# Altium integrated library National Semiconductor Amplifier.IntLib: 1665 symbols (part 19 of 44)
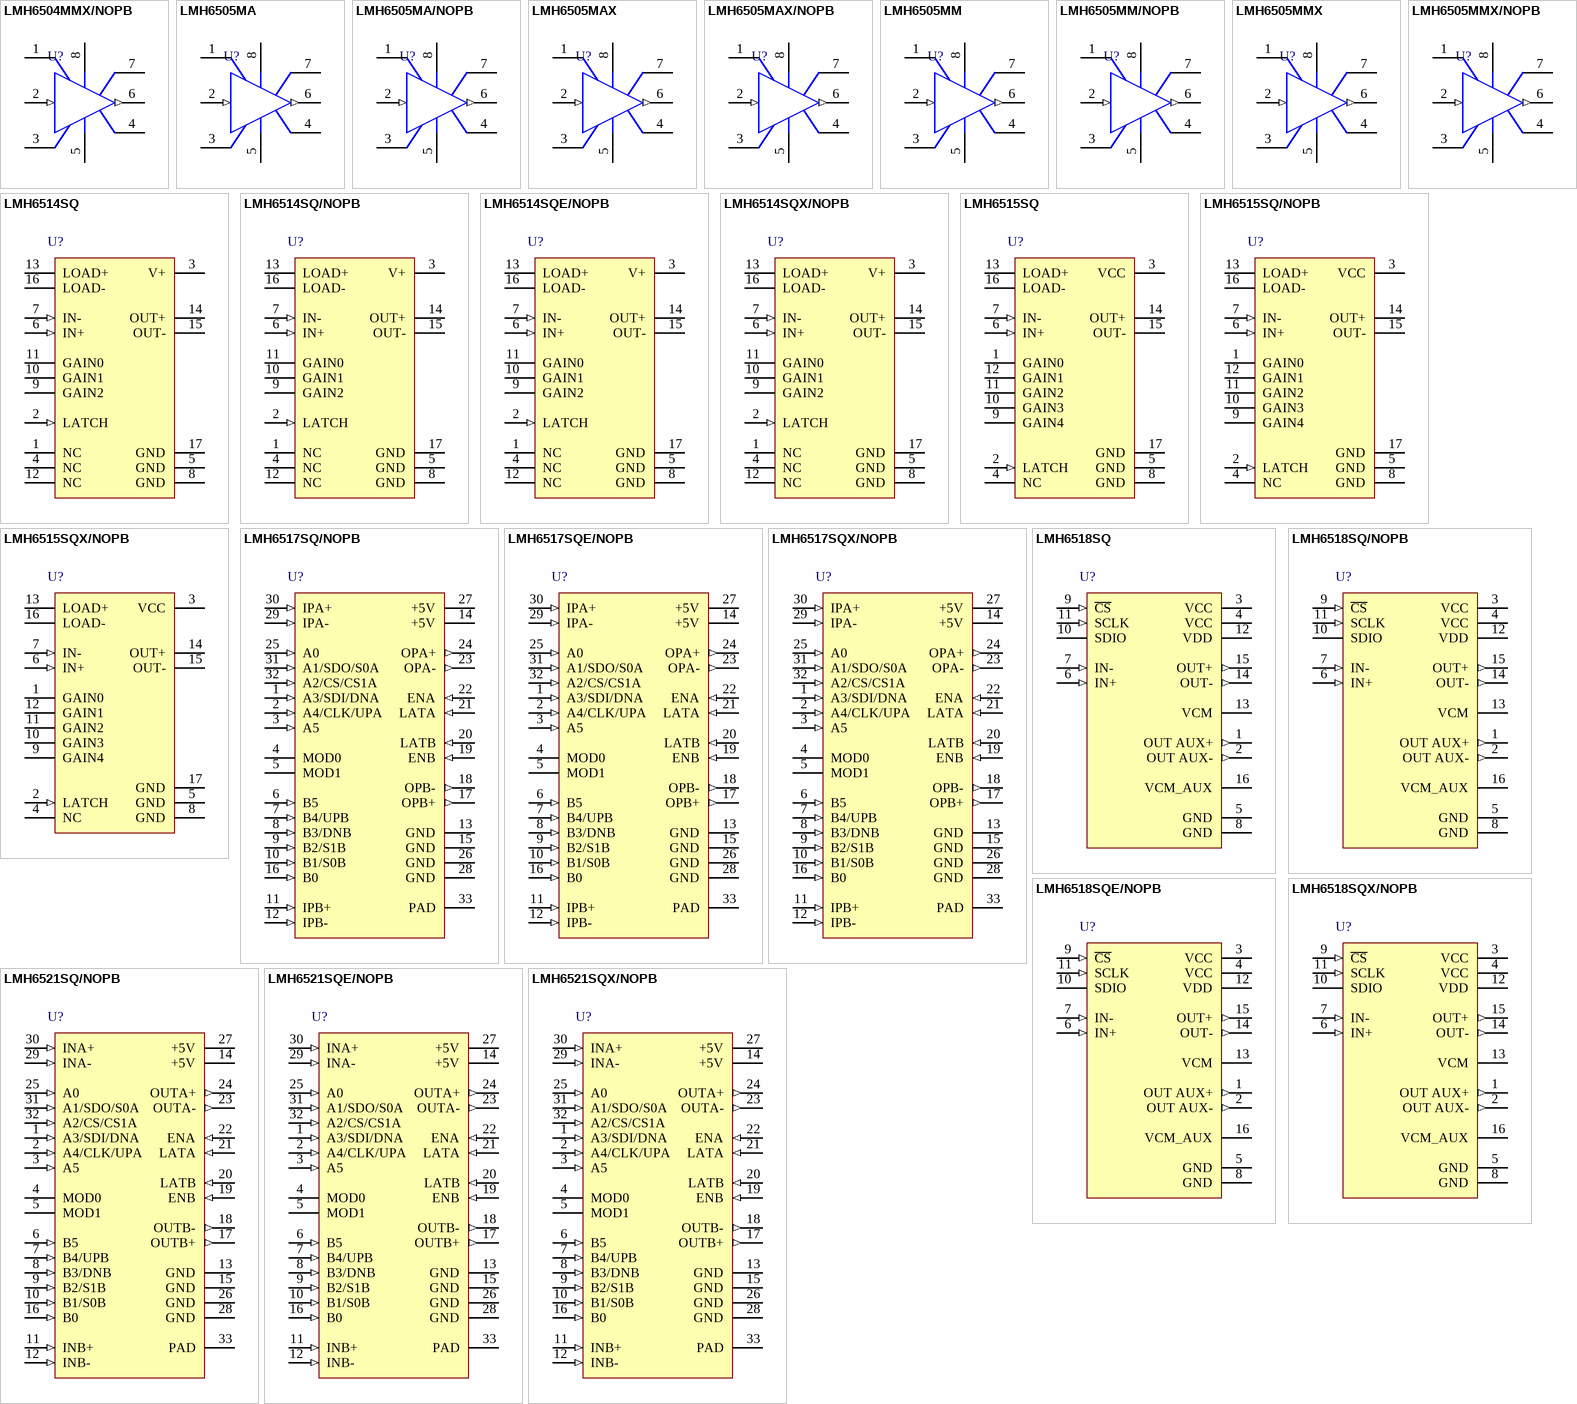
[diagram p102: symbols LMH6504MMX/NOPB to LMH6521SQX/NOPB]

## LMH6505MMX
designator U?
Wideband, Low Power, Linear-in-dB, Variable Gain Amplifier, 8-pin Mini SOIC; PartNumber: LMH6505MMX; Manufacturer: National Semiconductor; PackageTopMarking: ZXTT*AZ2A; PowerWise: Y; CompType: Amplifiers; DatasheetVersion: Dec-2007; PackageVersion: revF, Apr-2008; PackageReference: MUA08A; PackageDescription: MINI SOIC, .118 x .118 x .034in, 8 Lead, .0256in Pitch; RoHS: N; PinCount: 8; High-Reliability: Y; Code_JEDEC: MO-187-AA; ComponentLink1Description: Manufacturer URL; ComponentLink1URL: http://www.national.com/; ComponentLink2Description: LMH6505 Datasheet; ComponentLink2URL: http://www.national.com/ds/LM/LMH6505.pdf; ComponentLink3Description: LMH6505 Web Page; ComponentLink3URL: http://www.national.com/pf/LM/LMH6505.html; ComponentLink4Description: MUA08A Package Page; ComponentLink4URL: http://www.national.com/packaging/folders/mua08a.html
footprint MUA08A_N (TSOP, 8-Leads, Body 3x3mm, Pitch 0.65mm, IPC Medium Density)
footprint MUA08A_L (TSOP, 8-Leads, Body 3x3mm, Pitch 0.65mm, IPC High Density)
footprint MUA08A_M (TSOP, 8-Leads, Body 3x3mm, Pitch 0.65mm, IPC Low Density)
pins: 1 VG, 2 VIN (in), 3 RG, 4 GND (power), 5 V- (power), 6 VOUT (out), 7 I-, 8 V+ (power)

## LMH6505MMX/NOPB
designator U?
Wideband, Low Power, Linear-in-dB, Variable Gain Amplifier, 8-pin Mini SOIC, Pb-Free; PartNumber: LMH6505MMX/NOPB; Manufacturer: National Semiconductor; PackageTopMarking: ZXTT*AZ2A; PowerWise: Y; CompType: Amplifiers; DatasheetVersion: Dec-2007; PackageVersion: revF, Apr-2008; PackageReference: MUA08A; PackageDescription: MINI SOIC, .118 x .118 x .034in, 8 Lead, .0256in Pitch; RoHS: Y; PinCount: 8; High-Reliability: Y; Code_JEDEC: MO-187-AA; ComponentLink1Description: Manufacturer URL; ComponentLink1URL: http://www.national.com/; ComponentLink2Description: LMH6505 Datasheet; ComponentLink2URL: http://www.national.com/ds/LM/LMH6505.pdf; ComponentLink3Description: LMH6505 Web Page; ComponentLink3URL: http://www.national.com/pf/LM/LMH6505.html; ComponentLink4Description: MUA08A Package Page; ComponentLink4URL: http://www.national.com/packaging/folders/mua08a.html
footprint MUA08A_N (TSOP, 8-Leads, Body 3x3mm, Pitch 0.65mm, IPC Medium Density)
footprint MUA08A_L (TSOP, 8-Leads, Body 3x3mm, Pitch 0.65mm, IPC High Density)
footprint MUA08A_M (TSOP, 8-Leads, Body 3x3mm, Pitch 0.65mm, IPC Low Density)
pins: 1 VG, 2 VIN (in), 3 RG, 4 GND (power), 5 V- (power), 6 VOUT (out), 7 I-, 8 V+ (power)

## LMH6514SQ
designator U?
600 MHz, Digital Controlled, Variable Gain Amplifier, 16-pin LLP; PartNumber: LMH6514SQ; Manufacturer: National Semiconductor; PackageTopMarking: NS*UZXYTT*L6514SQ; PowerWise: Y; CompType: Amplifiers; DatasheetVersion: Jan-2008; PackageVersion: revA, Oct-2003; PackageReference: SQA16A; PackageDescription: LLP, Plastic, Quad, 4 x 4 x 0.8mm Body, 16 Lead, 0.5mm Pitch, No Pullback; RoHS: Y; PinCount: 16; High-Reliability: Y; ComponentLink1Description: Manufacturer URL; ComponentLink1URL: http://www.national.com/; ComponentLink2Description: LMH6514 Datasheet; ComponentLink2URL: http://www.national.com/ds/LM/LMH6514.pdf; ComponentLink3Description: LMH6514 Web Page; ComponentLink3URL: http://www.national.com/pf/LM/LMH6514.html; ComponentLink4Description: SQA16A Package Page; ComponentLink4URL: http://www.national.com/packaging/folders/sqa16a.html
footprint SQA16A (QFN, 16-Leads, Body 4x4mm, Pitch 0.5mm, Thermal Pad 2.7x2.7mm, NSC Recommended)
pins: 1 NC, 2 LATCH (in), 3 V+ (power), 4 NC, 5 GND (power), 6 IN+ (in), 7 IN- (in), 8 GND (power), 9 GAIN2, 10 GAIN1, 11 GAIN0, 12 NC, 13 LOAD+, 14 OUT+ (oc), 15 OUT- (oc), 16 LOAD-, 17 GND (power)

## LMH6514SQ/NOPB
designator U?
600 MHz, Digital Controlled, Variable Gain Amplifier, 16-pin LLP, Pb-Free; PartNumber: LMH6514SQ/NOPB; Manufacturer: National Semiconductor; PackageTopMarking: NS*UZXYTT*L6514SQ; PowerWise: Y; CompType: Amplifiers; DatasheetVersion: Jan-2008; PackageVersion: revA, Oct-2003; PackageReference: SQA16A; PackageDescription: LLP, Plastic, Quad, 4 x 4 x 0.8mm Body, 16 Lead, 0.5mm Pitch, No Pullback; RoHS: Y; PinCount: 16; High-Reliability: Y; ComponentLink1Description: Manufacturer URL; ComponentLink1URL: http://www.national.com/; ComponentLink2Description: LMH6514 Datasheet; ComponentLink2URL: http://www.national.com/ds/LM/LMH6514.pdf; ComponentLink3Description: LMH6514 Web Page; ComponentLink3URL: http://www.national.com/pf/LM/LMH6514.html; ComponentLink4Description: SQA16A Package Page; ComponentLink4URL: http://www.national.com/packaging/folders/sqa16a.html
footprint SQA16A (QFN, 16-Leads, Body 4x4mm, Pitch 0.5mm, Thermal Pad 2.7x2.7mm, NSC Recommended)
pins: 1 NC, 2 LATCH (in), 3 V+ (power), 4 NC, 5 GND (power), 6 IN+ (in), 7 IN- (in), 8 GND (power), 9 GAIN2, 10 GAIN1, 11 GAIN0, 12 NC, 13 LOAD+, 14 OUT+ (oc), 15 OUT- (oc), 16 LOAD-, 17 GND (power)

## LMH6514SQE/NOPB
designator U?
600 MHz, Digital Controlled, Variable Gain Amplifier, 16-pin LLP, Pb-Free; PartNumber: LMH6514SQE/NOPB; Manufacturer: National Semiconductor; PackageTopMarking: NS*UZXYTT*L6514SQ; PowerWise: Y; CompType: Amplifiers; DatasheetVersion: Jan-2008; PackageVersion: revA, Oct-2003; PackageReference: SQA16A; PackageDescription: LLP, Plastic, Quad, 4 x 4 x 0.8mm Body, 16 Lead, 0.5mm Pitch, No Pullback; RoHS: Y; PinCount: 16; High-Reliability: Y; ComponentLink1Description: Manufacturer URL; ComponentLink1URL: http://www.national.com/; ComponentLink2Description: LMH6514 Datasheet; ComponentLink2URL: http://www.national.com/ds/LM/LMH6514.pdf; ComponentLink3Description: LMH6514 Web Page; ComponentLink3URL: http://www.national.com/pf/LM/LMH6514.html; ComponentLink4Description: SQA16A Package Page; ComponentLink4URL: http://www.national.com/packaging/folders/sqa16a.html
footprint SQA16A (QFN, 16-Leads, Body 4x4mm, Pitch 0.5mm, Thermal Pad 2.7x2.7mm, NSC Recommended)
pins: 1 NC, 2 LATCH (in), 3 V+ (power), 4 NC, 5 GND (power), 6 IN+ (in), 7 IN- (in), 8 GND (power), 9 GAIN2, 10 GAIN1, 11 GAIN0, 12 NC, 13 LOAD+, 14 OUT+ (oc), 15 OUT- (oc), 16 LOAD-, 17 GND (power)

## LMH6514SQX/NOPB
designator U?
600 MHz, Digital Controlled, Variable Gain Amplifier, 16-pin LLP, Pb-Free; PartNumber: LMH6514SQX/NOPB; Manufacturer: National Semiconductor; PackageTopMarking: NS*UZXYTT*L6514SQ; PowerWise: Y; CompType: Amplifiers; DatasheetVersion: Jan-2008; PackageVersion: revA, Oct-2003; PackageReference: SQA16A; PackageDescription: LLP, Plastic, Quad, 4 x 4 x 0.8mm Body, 16 Lead, 0.5mm Pitch, No Pullback; RoHS: Y; PinCount: 16; High-Reliability: Y; ComponentLink1Description: Manufacturer URL; ComponentLink1URL: http://www.national.com/; ComponentLink2Description: LMH6514 Datasheet; ComponentLink2URL: http://www.national.com/ds/LM/LMH6514.pdf; ComponentLink3Description: LMH6514 Web Page; ComponentLink3URL: http://www.national.com/pf/LM/LMH6514.html; ComponentLink4Description: SQA16A Package Page; ComponentLink4URL: http://www.national.com/packaging/folders/sqa16a.html
footprint SQA16A (QFN, 16-Leads, Body 4x4mm, Pitch 0.5mm, Thermal Pad 2.7x2.7mm, NSC Recommended)
pins: 1 NC, 2 LATCH (in), 3 V+ (power), 4 NC, 5 GND (power), 6 IN+ (in), 7 IN- (in), 8 GND (power), 9 GAIN2, 10 GAIN1, 11 GAIN0, 12 NC, 13 LOAD+, 14 OUT+ (oc), 15 OUT- (oc), 16 LOAD-, 17 GND (power)

## LMH6515SQ
designator U?
600 MHz, Digital Controlled, Variable Gain Amplifier, 16-pin LLP; PartNumber: LMH6515SQ; Manufacturer: National Semiconductor; PackageTopMarking: NS*UZXYTT*L6515SQ; PowerWise: Y; CompType: Amplifiers; DatasheetVersion: Oct-2007; PackageVersion: revA, Oct-2003; PackageReference: SQA16A; PackageDescription: LLP, Plastic, Quad, 4 x 4 x 0.8mm Body, 16 Lead, 0.5mm Pitch, No Pullback; RoHS: Y; PinCount: 16; High-Reliability: Y; ComponentLink1Description: Manufacturer URL; ComponentLink1URL: http://www.national.com/; ComponentLink2Description: LMH6515 Datasheet; ComponentLink2URL: http://www.national.com/ds/LM/LMH6515.pdf; ComponentLink3Description: LMH6515 Web Page; ComponentLink3URL: http://www.national.com/pf/LM/LMH6515.html; ComponentLink4Description: SQA16A Package Page; ComponentLink4URL: http://www.national.com/packaging/folders/sqa16a.html
footprint SQA16A (QFN, 16-Leads, Body 4x4mm, Pitch 0.5mm, Thermal Pad 2.7x2.7mm, NSC Recommended)
pins: 1 GAIN0, 2 LATCH (in), 3 VCC (power), 4 NC, 5 GND (power), 6 IN+ (in), 7 IN- (in), 8 GND (power), 9 GAIN4, 10 GAIN3, 11 GAIN2, 12 GAIN1, 13 LOAD+, 14 OUT+ (oc), 15 OUT- (oc), 16 LOAD-, 17 GND (power)

## LMH6515SQ/NOPB
designator U?
600 MHz, Digital Controlled, Variable Gain Amplifier, 16-pin LLP, Pb-Free; PartNumber: LMH6515SQ/NOPB; Manufacturer: National Semiconductor; PackageTopMarking: NS*UZXYTT*L6515SQ; PowerWise: Y; CompType: Amplifiers; DatasheetVersion: Oct-2007; PackageVersion: revA, Oct-2003; PackageReference: SQA16A; PackageDescription: LLP, Plastic, Quad, 4 x 4 x 0.8mm Body, 16 Lead, 0.5mm Pitch, No Pullback; RoHS: Y; PinCount: 16; High-Reliability: Y; ComponentLink1Description: Manufacturer URL; ComponentLink1URL: http://www.national.com/; ComponentLink2Description: LMH6515 Datasheet; ComponentLink2URL: http://www.national.com/ds/LM/LMH6515.pdf; ComponentLink3Description: LMH6515 Web Page; ComponentLink3URL: http://www.national.com/pf/LM/LMH6515.html; ComponentLink4Description: SQA16A Package Page; ComponentLink4URL: http://www.national.com/packaging/folders/sqa16a.html
footprint SQA16A (QFN, 16-Leads, Body 4x4mm, Pitch 0.5mm, Thermal Pad 2.7x2.7mm, NSC Recommended)
pins: 1 GAIN0, 2 LATCH (in), 3 VCC (power), 4 NC, 5 GND (power), 6 IN+ (in), 7 IN- (in), 8 GND (power), 9 GAIN4, 10 GAIN3, 11 GAIN2, 12 GAIN1, 13 LOAD+, 14 OUT+ (oc), 15 OUT- (oc), 16 LOAD-, 17 GND (power)

## LMH6515SQX/NOPB
designator U?
600 MHz, Digital Controlled, Variable Gain Amplifier, 16-pin LLP, Pb-Free; PartNumber: LMH6515SQX/NOPB; Manufacturer: National Semiconductor; PackageTopMarking: NS*UZXYTT*L6515SQ; PowerWise: Y; CompType: Amplifiers; DatasheetVersion: Oct-2007; PackageVersion: revA, Oct-2003; PackageReference: SQA16A; PackageDescription: LLP, Plastic, Quad, 4 x 4 x 0.8mm Body, 16 Lead, 0.5mm Pitch, No Pullback; RoHS: Y; PinCount: 16; High-Reliability: Y; ComponentLink1Description: Manufacturer URL; ComponentLink1URL: http://www.national.com/; ComponentLink2Description: LMH6515 Datasheet; ComponentLink2URL: http://www.national.com/ds/LM/LMH6515.pdf; ComponentLink3Description: LMH6515 Web Page; ComponentLink3URL: http://www.national.com/pf/LM/LMH6515.html; ComponentLink4Description: SQA16A Package Page; ComponentLink4URL: http://www.national.com/packaging/folders/sqa16a.html
footprint SQA16A (QFN, 16-Leads, Body 4x4mm, Pitch 0.5mm, Thermal Pad 2.7x2.7mm, NSC Recommended)
pins: 1 GAIN0, 2 LATCH (in), 3 VCC (power), 4 NC, 5 GND (power), 6 IN+ (in), 7 IN- (in), 8 GND (power), 9 GAIN4, 10 GAIN3, 11 GAIN2, 12 GAIN1, 13 LOAD+, 14 OUT+ (oc), 15 OUT- (oc), 16 LOAD-, 17 GND (power)

## LMH6517SQ/NOPB
designator U?
Low Power, Low Noise IF and Baseband Dual 16 bit ADC Driver With Digitally Controlled Gain, 32 pin LLP, Pb-Free; PartNumber: LMH6517SQ/NOPB; Manufacturer: National Semiconductor; PackageTopMarking: NS*UZXYTT*L6517SQ; PowerWise: N; CompType: Amplifiers; High-Reliability: Y; DatasheetVersion: Nov-2009; PackageVersion: revB, Oct-2009; PackageReference: SQA32A; PackageDescription: LLP, Quad, 5 x 5 x 0.8mm, 32 Lead, 0.5mm Pitch, No Pullback 3.1 x 3.1 Exposed Pad; RoHS: Y; PinCount: 32; ComponentLink1Description: Manufacturer URL; ComponentLink1URL: http://www.national.com/; ComponentLink2Description: LMH6517 Datasheet; ComponentLink2URL: http://www.national.com/ds/LM/LMH6517.pdf; ComponentLink3Description: LMH6517 Web Page; ComponentLink3URL: http://www.national.com/pf/LM/LMH6517.html; ComponentLink4Description: SQA32A Package Page; ComponentLink4URL: http://www.national.com/packaging/folders/sqa32a.html
footprint SQA32A (QFN, 32-Leads, Body 5x5mm, Pitch 0.5mm, Thermal Pad 3.2x3.2mm, NSC Recommended)
pins: 1 A3/SDI/DNA (in), 2 A4/CLK/UPA (in), 3 A5 (in), 4 MOD0, 5 MOD1, 6 B5 (in), 7 B4/UPB (in), 8 B3/DNB (in), 9 B2/S1B (in), 10 B1/S0B (in), 11 IPB+ (in), 12 IPB- (in), 13 GND (power), 14 +5V (power), 15 GND (power), 16 B0 (in), 17 OPB+ (out), 18 OPB- (out), 19 ENB (in), 20 LATB (in), 21 LATA (in), 22 ENA (in), 23 OPA- (out), 24 OPA+ (out), 25 A0 (in), 26 GND (power), 27 +5V (power), 28 GND (power), 29 IPA- (in), 30 IPA+ (in), 31 A1/SDO/S0A (in), 32 A2/CS/CS1A (in), 33 PAD (power)

## LMH6517SQE/NOPB
designator U?
Low Power, Low Noise IF and Baseband Dual 16 bit ADC Driver With Digitally Controlled Gain, 32 pin LLP, Pb-Free; PartNumber: LMH6517SQE/NOPB; Manufacturer: National Semiconductor; PackageTopMarking: NS*UZXYTT*L6517SQ; PowerWise: N; CompType: Amplifiers; High-Reliability: Y; DatasheetVersion: Nov-2009; PackageVersion: revB, Oct-2009; PackageReference: SQA32A; PackageDescription: LLP, Quad, 5 x 5 x 0.8mm, 32 Lead, 0.5mm Pitch, No Pullback 3.1 x 3.1 Exposed Pad; RoHS: Y; PinCount: 32; ComponentLink1Description: Manufacturer URL; ComponentLink1URL: http://www.national.com/; ComponentLink2Description: LMH6517 Datasheet; ComponentLink2URL: http://www.national.com/ds/LM/LMH6517.pdf; ComponentLink3Description: LMH6517 Web Page; ComponentLink3URL: http://www.national.com/pf/LM/LMH6517.html; ComponentLink4Description: SQA32A Package Page; ComponentLink4URL: http://www.national.com/packaging/folders/sqa32a.html
footprint SQA32A (QFN, 32-Leads, Body 5x5mm, Pitch 0.5mm, Thermal Pad 3.2x3.2mm, NSC Recommended)
pins: 1 A3/SDI/DNA (in), 2 A4/CLK/UPA (in), 3 A5 (in), 4 MOD0, 5 MOD1, 6 B5 (in), 7 B4/UPB (in), 8 B3/DNB (in), 9 B2/S1B (in), 10 B1/S0B (in), 11 IPB+ (in), 12 IPB- (in), 13 GND (power), 14 +5V (power), 15 GND (power), 16 B0 (in), 17 OPB+ (out), 18 OPB- (out), 19 ENB (in), 20 LATB (in), 21 LATA (in), 22 ENA (in), 23 OPA- (out), 24 OPA+ (out), 25 A0 (in), 26 GND (power), 27 +5V (power), 28 GND (power), 29 IPA- (in), 30 IPA+ (in), 31 A1/SDO/S0A (in), 32 A2/CS/CS1A (in), 33 PAD (power)

## LMH6517SQX/NOPB
designator U?
Low Power, Low Noise IF and Baseband Dual 16 bit ADC Driver With Digitally Controlled Gain, 32 pin LLP, Pb-Free; PartNumber: LMH6517SQX/NOPB; Manufacturer: National Semiconductor; PackageTopMarking: NS*UZXYTT*L6517SQ; PowerWise: N; CompType: Amplifiers; High-Reliability: Y; DatasheetVersion: Nov-2009; PackageVersion: revB, Oct-2009; PackageReference: SQA32A; PackageDescription: LLP, Quad, 5 x 5 x 0.8mm, 32 Lead, 0.5mm Pitch, No Pullback 3.1 x 3.1 Exposed Pad; RoHS: Y; PinCount: 32; ComponentLink1Description: Manufacturer URL; ComponentLink1URL: http://www.national.com/; ComponentLink2Description: LMH6517 Datasheet; ComponentLink2URL: http://www.national.com/ds/LM/LMH6517.pdf; ComponentLink3Description: LMH6517 Web Page; ComponentLink3URL: http://www.national.com/pf/LM/LMH6517.html; ComponentLink4Description: SQA32A Package Page; ComponentLink4URL: http://www.national.com/packaging/folders/sqa32a.html
footprint SQA32A (QFN, 32-Leads, Body 5x5mm, Pitch 0.5mm, Thermal Pad 3.2x3.2mm, NSC Recommended)
pins: 1 A3/SDI/DNA (in), 2 A4/CLK/UPA (in), 3 A5 (in), 4 MOD0, 5 MOD1, 6 B5 (in), 7 B4/UPB (in), 8 B3/DNB (in), 9 B2/S1B (in), 10 B1/S0B (in), 11 IPB+ (in), 12 IPB- (in), 13 GND (power), 14 +5V (power), 15 GND (power), 16 B0 (in), 17 OPB+ (out), 18 OPB- (out), 19 ENB (in), 20 LATB (in), 21 LATA (in), 22 ENA (in), 23 OPA- (out), 24 OPA+ (out), 25 A0 (in), 26 GND (power), 27 +5V (power), 28 GND (power), 29 IPA- (in), 30 IPA+ (in), 31 A1/SDO/S0A (in), 32 A2/CS/CS1A (in), 33 PAD (power)

## LMH6518SQ
designator U?
900 MHz, Digitally Controlled, Variable Gain Amplifier, 16-pin LLP; PartNumber: LMH6518; Manufacturer: National Semiconductor; PackageTopMarking: NS*UZXYTT*L6518SQ; PowerWise: Y; CompType: Amplifiers; DatasheetVersion: Oct-2008; PackageVersion: revA, Oct-2003; PackageReference: SQA16A; PackageDescription: LLP, Plastic, Quad, 4 x 4 x 0.8mm Body, 16 Lead, 0.5mm Pitch, No Pullback; RoHS: Y; PinCount: 16; High-Reliability: Y; ComponentLink1Description: Manufacturer URL; ComponentLink1URL: http://www.national.com/; ComponentLink2Description: LMH6518 Datasheet; ComponentLink2URL: http://www.national.com/ds/LM/LMH6518.pdf; ComponentLink3Description: LMH6518 Web Page; ComponentLink3URL: http://www.national.com/pf/LM/LMH6518.html; ComponentLink4Description: SQA16A Package Page; ComponentLink4URL: http://www.national.com/packaging/folders/sqa16a.html
footprint SQA16A (QFN, 16-Leads, Body 4x4mm, Pitch 0.5mm, Thermal Pad 2.7x2.7mm, NSC Recommended)
pins: 1 OUT AUX+ (out), 2 OUT AUX- (out), 3 VCC (power), 4 VCC (power), 5 GND (power), 6 IN+ (in), 7 IN- (in), 8 GND (power), 9 ~{CS} (in), 10 SDIO (hiz), 11 SCLK (in), 12 VDD (power), 13 VCM, 14 OUT- (out), 15 OUT+ (out), 16 VCM_AUX

## LMH6518SQ/NOPB
designator U?
900 MHz, Digitally Controlled, Variable Gain Amplifier, 16-pin LLP, Pb-Free; PartNumber: LMH6518SQ/NOPB; Manufacturer: National Semiconductor; PackageTopMarking: NS*UZXYTT*L6518SQ; PowerWise: Y; CompType: Amplifiers; DatasheetVersion: Oct-2008; PackageVersion: revA, Oct-2003; PackageReference: SQA16A; PackageDescription: LLP, Plastic, Quad, 4 x 4 x 0.8mm Body, 16 Lead, 0.5mm Pitch, No Pullback; RoHS: Y; PinCount: 16; High-Reliability: Y; ComponentLink1Description: Manufacturer URL; ComponentLink1URL: http://www.national.com/; ComponentLink2Description: LMH6518 Datasheet; ComponentLink2URL: http://www.national.com/ds/LM/LMH6518.pdf; ComponentLink3Description: LMH6518 Web Page; ComponentLink3URL: http://www.national.com/pf/LM/LMH6518.html; ComponentLink4Description: SQA16A Package Page; ComponentLink4URL: http://www.national.com/packaging/folders/sqa16a.html
footprint SQA16A (QFN, 16-Leads, Body 4x4mm, Pitch 0.5mm, Thermal Pad 2.7x2.7mm, NSC Recommended)
pins: 1 OUT AUX+ (out), 2 OUT AUX- (out), 3 VCC (power), 4 VCC (power), 5 GND (power), 6 IN+ (in), 7 IN- (in), 8 GND (power), 9 ~{CS} (in), 10 SDIO (hiz), 11 SCLK (in), 12 VDD (power), 13 VCM, 14 OUT- (out), 15 OUT+ (out), 16 VCM_AUX

## LMH6518SQE/NOPB
designator U?
900 MHz, Digitally Controlled, Variable Gain Amplifier, 16-pin LLP, Pb-Free; PartNumber: LMH6518SQE/NOPB; Manufacturer: National Semiconductor; PackageTopMarking: NS*UZXYTT*L6518SQ; PowerWise: Y; CompType: Amplifiers; DatasheetVersion: Oct-2008; PackageVersion: revA, Oct-2003; PackageReference: SQA16A; PackageDescription: LLP, Plastic, Quad, 4 x 4 x 0.8mm Body, 16 Lead, 0.5mm Pitch, No Pullback; RoHS: Y; PinCount: 16; High-Reliability: Y; ComponentLink1Description: Manufacturer URL; ComponentLink1URL: http://www.national.com/; ComponentLink2Description: LMH6518 Datasheet; ComponentLink2URL: http://www.national.com/ds/LM/LMH6518.pdf; ComponentLink3Description: LMH6518 Web Page; ComponentLink3URL: http://www.national.com/pf/LM/LMH6518.html; ComponentLink4Description: SQA16A Package Page; ComponentLink4URL: http://www.national.com/packaging/folders/sqa16a.html
footprint SQA16A (QFN, 16-Leads, Body 4x4mm, Pitch 0.5mm, Thermal Pad 2.7x2.7mm, NSC Recommended)
pins: 1 OUT AUX+ (out), 2 OUT AUX- (out), 3 VCC (power), 4 VCC (power), 5 GND (power), 6 IN+ (in), 7 IN- (in), 8 GND (power), 9 ~{CS} (in), 10 SDIO (hiz), 11 SCLK (in), 12 VDD (power), 13 VCM, 14 OUT- (out), 15 OUT+ (out), 16 VCM_AUX

## LMH6518SQX/NOPB
designator U?
900 MHz, Digitally Controlled, Variable Gain Amplifier, 16-pin LLP, Pb-Free; PartNumber: LMH6518SQX/NOPB; Manufacturer: National Semiconductor; PackageTopMarking: NS*UZXYTT*L6518SQ; PowerWise: Y; CompType: Amplifiers; DatasheetVersion: Oct-2008; PackageVersion: revA, Oct-2003; PackageReference: SQA16A; PackageDescription: LLP, Plastic, Quad, 4 x 4 x 0.8mm Body, 16 Lead, 0.5mm Pitch, No Pullback; RoHS: Y; PinCount: 16; High-Reliability: Y; ComponentLink1Description: Manufacturer URL; ComponentLink1URL: http://www.national.com/; ComponentLink2Description: LMH6518 Datasheet; ComponentLink2URL: http://www.national.com/ds/LM/LMH6518.pdf; ComponentLink3Description: LMH6518 Web Page; ComponentLink3URL: http://www.national.com/pf/LM/LMH6518.html; ComponentLink4Description: SQA16A Package Page; ComponentLink4URL: http://www.national.com/packaging/folders/sqa16a.html
footprint SQA16A (QFN, 16-Leads, Body 4x4mm, Pitch 0.5mm, Thermal Pad 2.7x2.7mm, NSC Recommended)
pins: 1 OUT AUX+ (out), 2 OUT AUX- (out), 3 VCC (power), 4 VCC (power), 5 GND (power), 6 IN+ (in), 7 IN- (in), 8 GND (power), 9 ~{CS} (in), 10 SDIO (hiz), 11 SCLK (in), 12 VDD (power), 13 VCM, 14 OUT- (out), 15 OUT+ (out), 16 VCM_AUX

## LMH6521SQ/NOPB
designator U?
High Performance Dual DVGA, 32-pin LLP, 1000 Reel; PartNumber: LMH6521SQ/NOPB; Manufacturer: National Semiconductor; PackageTopMarking: NS*UZXYTT*L6521SQ; PowerWise: N; CompType: Amplifiers; High-Reliability: Y; DatasheetVersion: Sep-2011; PackageVersion: revB, Oct-2009; PackageReference: SQA32A; PackageDescription: LLP, Quad, 5 x 5 x 0.8mm, 32 Lead, 0.5mm Pitch, No Pullback 3.1 x 3.1 Exposed Pad; RoHS: Y; PinCount: 32; ComponentLink1Description: Manufacturer URL; ComponentLink1URL: http://www.national.com/; ComponentLink2Description: LMH6521 Datasheet; ComponentLink2URL: http://www.national.com/ds/LM/LMH6521.pdf; ComponentLink3Description: LMH6521 Web Page; ComponentLink3URL: http://www.national.com/pf/LM/LMH6521.html; ComponentLink4Description: SQA32A Package Page; ComponentLink4URL: http://www.national.com/packaging/folders/sqa32a.html
footprint SQA32A (QFN, 32-Leads, Body 5x5mm, Pitch 0.5mm, Thermal Pad 3.2x3.2mm, NSC Recommended)
pins: 1 A3/SDI/DNA (in), 2 A4/CLK/UPA (in), 3 A5 (in), 4 MOD0, 5 MOD1, 6 B5 (in), 7 B4/UPB (in), 8 B3/DNB (in), 9 B2/S1B (in), 10 B1/S0B (in), 11 INB+ (in), 12 INB- (in), 13 GND (power), 14 +5V (power), 15 GND (power), 16 B0 (in), 17 OUTB+ (out), 18 OUTB- (out), 19 ENB (in), 20 LATB (in), 21 LATA (in), 22 ENA (in), 23 OUTA- (out), 24 OUTA+ (out), 25 A0 (in), 26 GND (power), 27 +5V (power), 28 GND (power), 29 INA- (in), 30 INA+ (in), 31 A1/SDO/S0A (in), 32 A2/CS/CS1A (in), 33 PAD (power)

## LMH6521SQE/NOPB
designator U?
High Performance Dual DVGA, 32-pin LLP, 250 Reel; PartNumber: LMH6521SQE/NOPB; Manufacturer: National Semiconductor; PackageTopMarking: NS*UZXYTT*L6521SQ; PowerWise: N; CompType: Amplifiers; High-Reliability: Y; DatasheetVersion: Sep-2011; PackageVersion: revB, Oct-2009; PackageReference: SQA32A; PackageDescription: LLP, Quad, 5 x 5 x 0.8mm, 32 Lead, 0.5mm Pitch, No Pullback 3.1 x 3.1 Exposed Pad; RoHS: Y; PinCount: 32; ComponentLink1Description: Manufacturer URL; ComponentLink1URL: http://www.national.com/; ComponentLink2Description: LMH6521 Datasheet; ComponentLink2URL: http://www.national.com/ds/LM/LMH6521.pdf; ComponentLink3Description: LMH6521 Web Page; ComponentLink3URL: http://www.national.com/pf/LM/LMH6521.html; ComponentLink4Description: SQA32A Package Page; ComponentLink4URL: http://www.national.com/packaging/folders/sqa32a.html
footprint SQA32A (QFN, 32-Leads, Body 5x5mm, Pitch 0.5mm, Thermal Pad 3.2x3.2mm, NSC Recommended)
pins: 1 A3/SDI/DNA (in), 2 A4/CLK/UPA (in), 3 A5 (in), 4 MOD0, 5 MOD1, 6 B5 (in), 7 B4/UPB (in), 8 B3/DNB (in), 9 B2/S1B (in), 10 B1/S0B (in), 11 INB+ (in), 12 INB- (in), 13 GND (power), 14 +5V (power), 15 GND (power), 16 B0 (in), 17 OUTB+ (out), 18 OUTB- (out), 19 ENB (in), 20 LATB (in), 21 LATA (in), 22 ENA (in), 23 OUTA- (out), 24 OUTA+ (out), 25 A0 (in), 26 GND (power), 27 +5V (power), 28 GND (power), 29 INA- (in), 30 INA+ (in), 31 A1/SDO/S0A (in), 32 A2/CS/CS1A (in), 33 PAD (power)

## LMH6521SQX/NOPB
designator U?
High Performance Dual DVGA, 32-pin LLP, 4500 Reel; PartNumber: LMH6521SQX/NOPB; Manufacturer: National Semiconductor; PackageTopMarking: NS*UZXYTT*L6521SQ; PowerWise: N; CompType: Amplifiers; High-Reliability: Y; DatasheetVersion: Sep-2011; PackageVersion: revB, Oct-2009; PackageReference: SQA32A; PackageDescription: LLP, Quad, 5 x 5 x 0.8mm, 32 Lead, 0.5mm Pitch, No Pullback 3.1 x 3.1 Exposed Pad; RoHS: Y; PinCount: 32; ComponentLink1Description: Manufacturer URL; ComponentLink1URL: http://www.national.com/; ComponentLink2Description: LMH6521 Datasheet; ComponentLink2URL: http://www.national.com/ds/LM/LMH6521.pdf; ComponentLink3Description: LMH6521 Web Page; ComponentLink3URL: http://www.national.com/pf/LM/LMH6521.html; ComponentLink4Description: SQA32A Package Page; ComponentLink4URL: http://www.national.com/packaging/folders/sqa32a.html
footprint SQA32A (QFN, 32-Leads, Body 5x5mm, Pitch 0.5mm, Thermal Pad 3.2x3.2mm, NSC Recommended)
pins: 1 A3/SDI/DNA (in), 2 A4/CLK/UPA (in), 3 A5 (in), 4 MOD0, 5 MOD1, 6 B5 (in), 7 B4/UPB (in), 8 B3/DNB (in), 9 B2/S1B (in), 10 B1/S0B (in), 11 INB+ (in), 12 INB- (in), 13 GND (power), 14 +5V (power), 15 GND (power), 16 B0 (in), 17 OUTB+ (out), 18 OUTB- (out), 19 ENB (in), 20 LATB (in), 21 LATA (in), 22 ENA (in), 23 OUTA- (out), 24 OUTA+ (out), 25 A0 (in), 26 GND (power), 27 +5V (power), 28 GND (power), 29 INA- (in), 30 INA+ (in), 31 A1/SDO/S0A (in), 32 A2/CS/CS1A (in), 33 PAD (power)

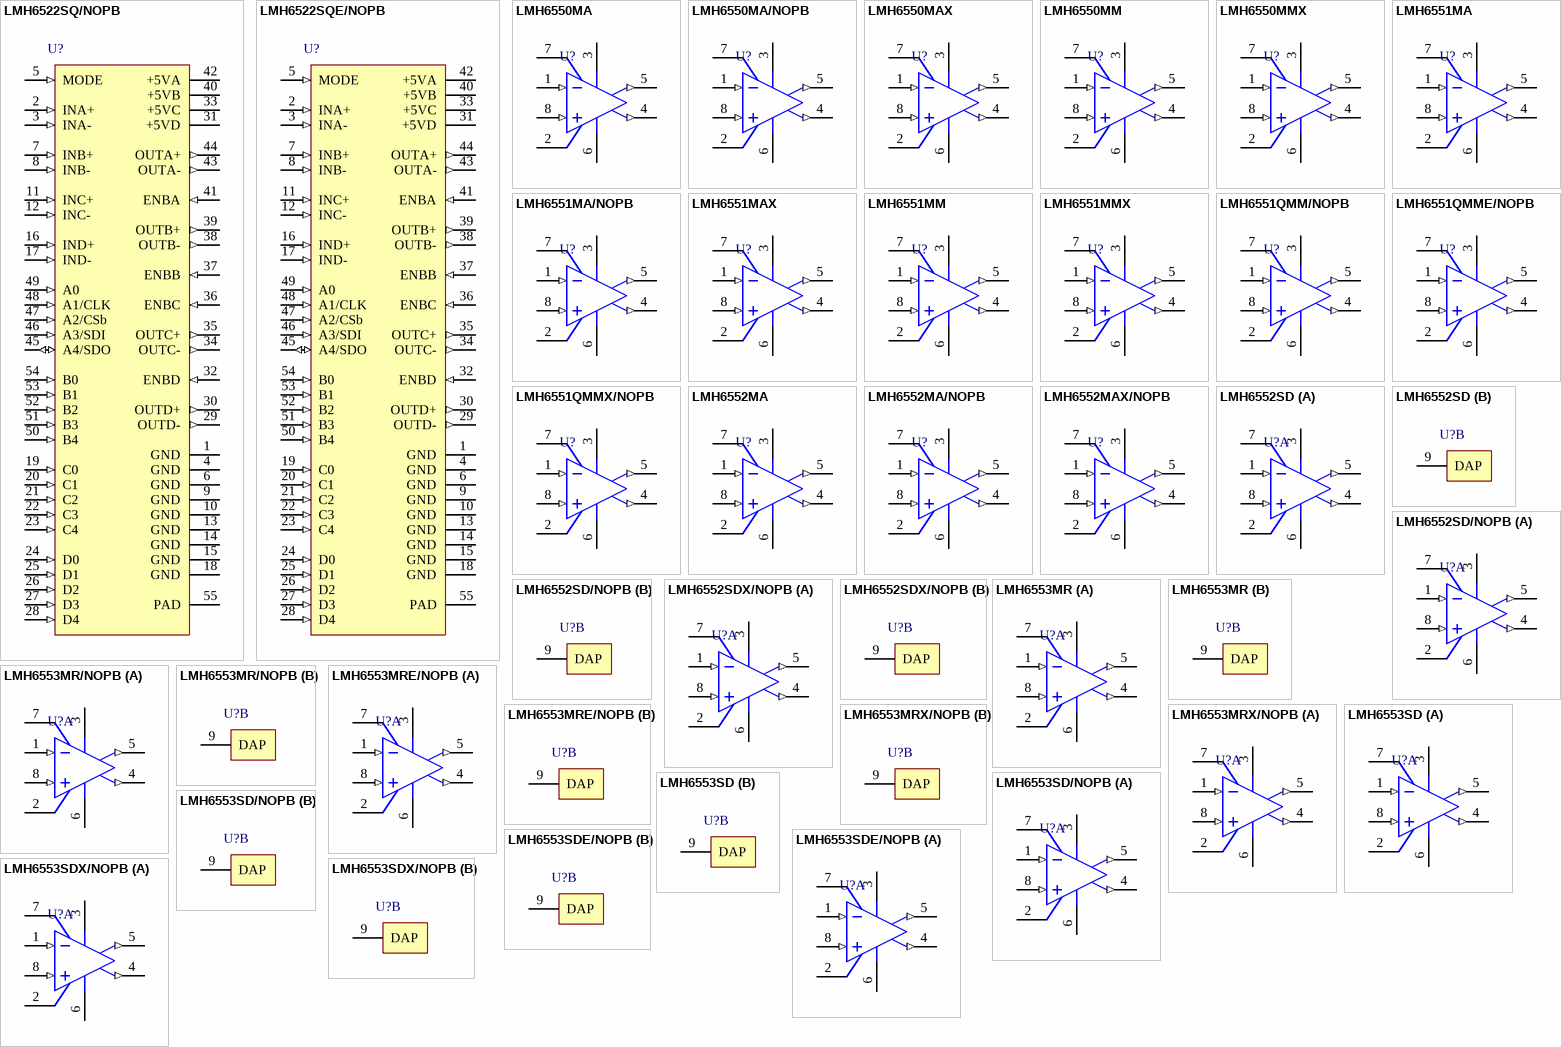
[diagram p41: symbols LMH6522SQ/NOPB to LMH6553SDX/NOPB]

## LMH6522SQ/NOPB
designator U?
High Performance Quad DVGA, 54-pin LLP, 2000 Reel; PartNumber: LMH6522SQ/NOPB; Manufacturer: National Semiconductor; PackageTopMarking: NS*UZXYTTE#*L6522; PowerWise: N; CompType: Amplifiers; High-Reliability: Y; DatasheetVersion: Sep-2011; PackageVersion: revB, Jun-2009; PackageReference: SQA54A; PackageDescription: LLP, Plastic, Quad, 10 x 10 x 0.8 mm Body, 54 Lead, 0.5 mm Pitch (SQA54A); RoHS: Y; PinCount: 54; ComponentLink1Description: Manufacturer URL; ComponentLink1URL: http://www.national.com/; ComponentLink2Description: LMH6522 Datasheet; ComponentLink2URL: http://www.national.com/ds/LM/LMH6522.pdf; ComponentLink3Description: LMH6522 Web Page; ComponentLink3URL: http://www.national.com/pf/LM/LMH6522.html; ComponentLink4Description: SQA54A Package Page; ComponentLink4URL: http://www.national.com/packaging/folders/sqa54a.html
footprint SQA54A (PQFN, 54-Leads, (18x9 pads), Body 10x10mm, Pitch 0.5mm, NSC Recommended)
pins: 1 GND (power), 2 INA+ (in), 3 INA- (in), 4 GND (power), 5 MODE (in), 6 GND (power), 7 INB+ (in), 8 INB- (in), 9 GND (power), 10 GND (power), 11 INC+ (in), 12 INC- (in), 13 GND (power), 14 GND (power), 15 GND (power), 16 IND+ (in), 17 IND- (in), 18 GND (power), 19 C0 (in), 20 C1 (in), 21 C2 (in), 22 C3 (in), 23 C4 (in), 24 D0 (in), 25 D1 (in), 26 D2 (in), 27 D3 (in), 28 D4 (in), 29 OUTD- (out), 30 OUTD+ (out), 31 +5VD (power), 32 ENBD (in), 33 +5VC (power), 34 OUTC- (out), 35 OUTC+ (out), 36 ENBC (in), 37 ENBB (in), 38 OUTB- (out), 39 OUTB+ (out), 40 +5VB (power), 41 ENBA (in), 42 +5VA (power), 43 OUTA- (out), 44 OUTA+ (out), 45 A4/SDO (io), 46 A3/SDI (in), 47 A2/CSb (in), 48 A1/CLK (in), 49 A0 (in), 50 B4 (in), 51 B3 (in), 52 B2 (in), 53 B1 (in), 54 B0 (in), 55 PAD (power)

## LMH6522SQE/NOPB
designator U?
High Performance Quad DVGA, 54-pin LLP, 250 Reel; PartNumber: LMH6522SQE/NOPB; Manufacturer: National Semiconductor; PackageTopMarking: NS*UZXYTTE#*L6522; PowerWise: N; CompType: Amplifiers; High-Reliability: Y; DatasheetVersion: Sep-2011; PackageVersion: revB, Jun-2009; PackageReference: SQA54A; PackageDescription: LLP, Plastic, Quad, 10 x 10 x 0.8 mm Body, 54 Lead, 0.5 mm Pitch (SQA54A); RoHS: Y; PinCount: 54; ComponentLink1Description: Manufacturer URL; ComponentLink1URL: http://www.national.com/; ComponentLink2Description: LMH6522 Datasheet; ComponentLink2URL: http://www.national.com/ds/LM/LMH6522.pdf; ComponentLink3Description: LMH6522 Web Page; ComponentLink3URL: http://www.national.com/pf/LM/LMH6522.html; ComponentLink4Description: SQA54A Package Page; ComponentLink4URL: http://www.national.com/packaging/folders/sqa54a.html
footprint SQA54A (PQFN, 54-Leads, (18x9 pads), Body 10x10mm, Pitch 0.5mm, NSC Recommended)
pins: 1 GND (power), 2 INA+ (in), 3 INA- (in), 4 GND (power), 5 MODE (in), 6 GND (power), 7 INB+ (in), 8 INB- (in), 9 GND (power), 10 GND (power), 11 INC+ (in), 12 INC- (in), 13 GND (power), 14 GND (power), 15 GND (power), 16 IND+ (in), 17 IND- (in), 18 GND (power), 19 C0 (in), 20 C1 (in), 21 C2 (in), 22 C3 (in), 23 C4 (in), 24 D0 (in), 25 D1 (in), 26 D2 (in), 27 D3 (in), 28 D4 (in), 29 OUTD- (out), 30 OUTD+ (out), 31 +5VD (power), 32 ENBD (in), 33 +5VC (power), 34 OUTC- (out), 35 OUTC+ (out), 36 ENBC (in), 37 ENBB (in), 38 OUTB- (out), 39 OUTB+ (out), 40 +5VB (power), 41 ENBA (in), 42 +5VA (power), 43 OUTA- (out), 44 OUTA+ (out), 45 A4/SDO (io), 46 A3/SDI (in), 47 A2/CSb (in), 48 A1/CLK (in), 49 A0 (in), 50 B4 (in), 51 B3 (in), 52 B2 (in), 53 B1 (in), 54 B0 (in), 55 PAD (power)

## LMH6550MA
designator U?
Differential, High Speed Op Amp, 8-pin Narrow SOIC; PartNumber: LMH6550MA; Manufacturer: National Semiconductor; PackageTopMarking: NSZXTT*LMH65*50MA; PowerWise: Y; CompType: Amplifiers; DatasheetVersion: May-2006; PackageVersion: revM, May-2009; PackageReference: M08A; PackageDescription: SOIC Narrow, 4.9 x 3.9 x 1.45mm, 8 Lead, 1.27mm Pitch; RoHS: N; PinCount: 8; High-Reliability: Y; Code_JEDEC: MS-012-AA; Code_IPC: SOIC127P600-8; ComponentLink1Description: Manufacturer URL; ComponentLink1URL: http://www.national.com/; ComponentLink2Description: LMH6550 Datasheet; ComponentLink2URL: http://www.national.com/ds/LM/LMH6550.pdf; ComponentLink3Description: LMH6550 Web Page; ComponentLink3URL: http://www.national.com/pf/LM/LMH6550.html; ComponentLink4Description: M08A Package Page; ComponentLink4URL: http://www.national.com/packaging/folders/m08a.html
footprint M08A_N (SOIC, 8-Leads, Body 4.9x3.9mm, Pitch 1.27mm, IPC Medium Density)
footprint M08A_L (SOIC, 8-Leads, Body 4.9x3.9mm, Pitch 1.27mm, IPC High Density)
footprint M08A_M (SOIC, 8-Leads, Body 4.9x3.9mm, Pitch 1.27mm, IPC Low Density)
pins: 1 IN- (in), 2 VCM, 3 V+ (power), 4 OUT+ (out), 5 OUT- (out), 6 V- (power), 7 EN, 8 IN+ (in)

## LMH6550MA/NOPB
designator U?
Differential, High Speed Op Amp, 8-pin Narrow SOIC, Pb-Free; PartNumber: LMH6550MA/NOPB; Manufacturer: National Semiconductor; PackageTopMarking: NSZXTT*LMH65*50MA; PowerWise: Y; CompType: Amplifiers; DatasheetVersion: May-2006; PackageVersion: revM, May-2009; PackageReference: M08A; PackageDescription: SOIC Narrow, 4.9 x 3.9 x 1.45mm, 8 Lead, 1.27mm Pitch; RoHS: Y; PinCount: 8; High-Reliability: Y; Code_JEDEC: MS-012-AA; Code_IPC: SOIC127P600-8; ComponentLink1Description: Manufacturer URL; ComponentLink1URL: http://www.national.com/; ComponentLink2Description: LMH6550 Datasheet; ComponentLink2URL: http://www.national.com/ds/LM/LMH6550.pdf; ComponentLink3Description: LMH6550 Web Page; ComponentLink3URL: http://www.national.com/pf/LM/LMH6550.html; ComponentLink4Description: M08A Package Page; ComponentLink4URL: http://www.national.com/packaging/folders/m08a.html
footprint M08A_N (SOIC, 8-Leads, Body 4.9x3.9mm, Pitch 1.27mm, IPC Medium Density)
footprint M08A_L (SOIC, 8-Leads, Body 4.9x3.9mm, Pitch 1.27mm, IPC High Density)
footprint M08A_M (SOIC, 8-Leads, Body 4.9x3.9mm, Pitch 1.27mm, IPC Low Density)
pins: 1 IN- (in), 2 VCM, 3 V+ (power), 4 OUT+ (out), 5 OUT- (out), 6 V- (power), 7 EN, 8 IN+ (in)

## LMH6550MAX
designator U?
Differential, High Speed Op Amp, 8-pin Narrow SOIC; PartNumber: LMH6550MAX; Manufacturer: National Semiconductor; PackageTopMarking: NSZXTT*LMH65*50MA; PowerWise: Y; CompType: Amplifiers; DatasheetVersion: May-2006; PackageVersion: revM, May-2009; PackageReference: M08A; PackageDescription: SOIC Narrow, 4.9 x 3.9 x 1.45mm, 8 Lead, 1.27mm Pitch; RoHS: N; PinCount: 8; High-Reliability: Y; Code_JEDEC: MS-012-AA; Code_IPC: SOIC127P600-8; ComponentLink1Description: Manufacturer URL; ComponentLink1URL: http://www.national.com/; ComponentLink2Description: LMH6550 Datasheet; ComponentLink2URL: http://www.national.com/ds/LM/LMH6550.pdf; ComponentLink3Description: LMH6550 Web Page; ComponentLink3URL: http://www.national.com/pf/LM/LMH6550.html; ComponentLink4Description: M08A Package Page; ComponentLink4URL: http://www.national.com/packaging/folders/m08a.html
footprint M08A_N (SOIC, 8-Leads, Body 4.9x3.9mm, Pitch 1.27mm, IPC Medium Density)
footprint M08A_L (SOIC, 8-Leads, Body 4.9x3.9mm, Pitch 1.27mm, IPC High Density)
footprint M08A_M (SOIC, 8-Leads, Body 4.9x3.9mm, Pitch 1.27mm, IPC Low Density)
pins: 1 IN- (in), 2 VCM, 3 V+ (power), 4 OUT+ (out), 5 OUT- (out), 6 V- (power), 7 EN, 8 IN+ (in)

## LMH6550MM
designator U?
Differential, High Speed Op Amp, 8-pin Mini SOIC; PartNumber: LMH6550MM; Manufacturer: National Semiconductor; PackageTopMarking: ZXTT*AL1A; PowerWise: Y; CompType: Amplifiers; DatasheetVersion: May-2006; PackageVersion: revF, Apr-2008; PackageReference: MUA08A; PackageDescription: MINI SOIC, .118 x .118 x .034in, 8 Lead, .0256in Pitch; RoHS: Y; PinCount: 8; High-Reliability: Y; Code_JEDEC: MO-187-AA; ComponentLink1Description: Manufacturer URL; ComponentLink1URL: http://www.national.com/; ComponentLink2Description: LMH6550 Datasheet; ComponentLink2URL: http://www.national.com/ds/LM/LMH6550.pdf; ComponentLink3Description: LMH6550 Web Page; ComponentLink3URL: http://www.national.com/pf/LM/LMH6550.html; ComponentLink4Description: MUA08A Package Page; ComponentLink4URL: http://www.national.com/packaging/folders/mua08a.html
footprint MUA08A_N (TSOP, 8-Leads, Body 3x3mm, Pitch 0.65mm, IPC Medium Density)
footprint MUA08A_L (TSOP, 8-Leads, Body 3x3mm, Pitch 0.65mm, IPC High Density)
footprint MUA08A_M (TSOP, 8-Leads, Body 3x3mm, Pitch 0.65mm, IPC Low Density)
pins: 1 IN- (in), 2 VCM, 3 V+ (power), 4 OUT+ (out), 5 OUT- (out), 6 V- (power), 7 EN, 8 IN+ (in)

## LMH6550MMX
designator U?
Differential, High Speed Op Amp, 8-pin Mini SOIC; PartNumber: LMH6550MMX; Manufacturer: National Semiconductor; PackageTopMarking: ZXTT*AL1A; PowerWise: Y; CompType: Amplifiers; DatasheetVersion: May-2006; PackageVersion: revF, Apr-2008; PackageReference: MUA08A; PackageDescription: MINI SOIC, .118 x .118 x .034in, 8 Lead, .0256in Pitch; RoHS: N; PinCount: 8; High-Reliability: Y; Code_JEDEC: MO-187-AA; ComponentLink1Description: Manufacturer URL; ComponentLink1URL: http://www.national.com/; ComponentLink2Description: LMH6550 Datasheet; ComponentLink2URL: http://www.national.com/ds/LM/LMH6550.pdf; ComponentLink3Description: LMH6550 Web Page; ComponentLink3URL: http://www.national.com/pf/LM/LMH6550.html; ComponentLink4Description: MUA08A Package Page; ComponentLink4URL: http://www.national.com/packaging/folders/mua08a.html
footprint MUA08A_N (TSOP, 8-Leads, Body 3x3mm, Pitch 0.65mm, IPC Medium Density)
footprint MUA08A_L (TSOP, 8-Leads, Body 3x3mm, Pitch 0.65mm, IPC High Density)
footprint MUA08A_M (TSOP, 8-Leads, Body 3x3mm, Pitch 0.65mm, IPC Low Density)
pins: 1 IN- (in), 2 VCM, 3 V+ (power), 4 OUT+ (out), 5 OUT- (out), 6 V- (power), 7 EN, 8 IN+ (in)

## LMH6551MA
designator U?
Differential, High Speed Op Amp, 8-pin Narrow SOIC, 95 Rail; PartNumber: LMH6551MA; Manufacturer: National Semiconductor; PackageTopMarking: NSZXTT*LMH65*51MA; PowerWise: Y; CompType: Amplifiers; DatasheetVersion: Feb-2005; PackageVersion: revM, May-2009; PackageReference: M08A; PackageDescription: SOIC Narrow, 4.9 x 3.9 x 1.45mm, 8 Lead, 1.27mm Pitch; RoHS: N; PinCount: 8; High-Reliability: Y; Code_JEDEC: MS-012-AA; Code_IPC: SOIC127P600-8; ComponentLink1Description: Manufacturer URL; ComponentLink1URL: http://www.national.com/; ComponentLink2Description: LMH6551 Datasheet; ComponentLink2URL: http://www.national.com/ds/LM/LMH6551.pdf; ComponentLink3Description: LMH6551 Web Page; ComponentLink3URL: http://www.national.com/pf/LM/LMH6551.html; ComponentLink4Description: M08A Package Page; ComponentLink4URL: http://www.national.com/packaging/folders/m08a.html
footprint M08A_N (SOIC, 8-Leads, Body 4.9x3.9mm, Pitch 1.27mm, IPC Medium Density)
footprint M08A_L (SOIC, 8-Leads, Body 4.9x3.9mm, Pitch 1.27mm, IPC High Density)
footprint M08A_M (SOIC, 8-Leads, Body 4.9x3.9mm, Pitch 1.27mm, IPC Low Density)
pins: 1 IN- (in), 2 VCM, 3 V+ (power), 4 OUT+ (out), 5 OUT- (out), 6 V- (power), 7 NC, 8 IN+ (in)

## LMH6551MA/NOPB
designator U?
Differential, High Speed Op Amp, 8-pin Narrow SOIC, Pb-Free, 95 Rail; PartNumber: LMH6551MA/NOPB; Manufacturer: National Semiconductor; PackageTopMarking: NSZXTT*LMH65*51MA; PowerWise: Y; CompType: Amplifiers; DatasheetVersion: Feb-2005; PackageVersion: revM, May-2009; PackageReference: M08A; PackageDescription: SOIC Narrow, 4.9 x 3.9 x 1.45mm, 8 Lead, 1.27mm Pitch; RoHS: Y; PinCount: 8; High-Reliability: Y; Code_JEDEC: MS-012-AA; Code_IPC: SOIC127P600-8; ComponentLink1Description: Manufacturer URL; ComponentLink1URL: http://www.national.com/; ComponentLink2Description: LMH6551 Datasheet; ComponentLink2URL: http://www.national.com/ds/LM/LMH6551.pdf; ComponentLink3Description: LMH6551 Web Page; ComponentLink3URL: http://www.national.com/pf/LM/LMH6551.html; ComponentLink4Description: M08A Package Page; ComponentLink4URL: http://www.national.com/packaging/folders/m08a.html
footprint M08A_N (SOIC, 8-Leads, Body 4.9x3.9mm, Pitch 1.27mm, IPC Medium Density)
footprint M08A_L (SOIC, 8-Leads, Body 4.9x3.9mm, Pitch 1.27mm, IPC High Density)
footprint M08A_M (SOIC, 8-Leads, Body 4.9x3.9mm, Pitch 1.27mm, IPC Low Density)
pins: 1 IN- (in), 2 VCM, 3 V+ (power), 4 OUT+ (out), 5 OUT- (out), 6 V- (power), 7 NC, 8 IN+ (in)

## LMH6551MAX
designator U?
Differential, High Speed Op Amp, 8-pin Narrow SOIC, 2500 Reel; PartNumber: LMH6551MAX; Manufacturer: National Semiconductor; PackageTopMarking: NSZXTT*LMH65*51MA; PowerWise: Y; CompType: Amplifiers; DatasheetVersion: Feb-2005; PackageVersion: revM, May-2009; PackageReference: M08A; PackageDescription: SOIC Narrow, 4.9 x 3.9 x 1.45mm, 8 Lead, 1.27mm Pitch; RoHS: N; PinCount: 8; High-Reliability: Y; Code_JEDEC: MS-012-AA; Code_IPC: SOIC127P600-8; ComponentLink1Description: Manufacturer URL; ComponentLink1URL: http://www.national.com/; ComponentLink2Description: LMH6551 Datasheet; ComponentLink2URL: http://www.national.com/ds/LM/LMH6551.pdf; ComponentLink3Description: LMH6551 Web Page; ComponentLink3URL: http://www.national.com/pf/LM/LMH6551.html; ComponentLink4Description: M08A Package Page; ComponentLink4URL: http://www.national.com/packaging/folders/m08a.html
footprint M08A_N (SOIC, 8-Leads, Body 4.9x3.9mm, Pitch 1.27mm, IPC Medium Density)
footprint M08A_L (SOIC, 8-Leads, Body 4.9x3.9mm, Pitch 1.27mm, IPC High Density)
footprint M08A_M (SOIC, 8-Leads, Body 4.9x3.9mm, Pitch 1.27mm, IPC Low Density)
pins: 1 IN- (in), 2 VCM, 3 V+ (power), 4 OUT+ (out), 5 OUT- (out), 6 V- (power), 7 NC, 8 IN+ (in)

## LMH6551MM
designator U?
Differential, High Speed Op Amp, 8-pin Mini SOIC, 1000 Reel; PartNumber: LMH6551MM; Manufacturer: National Semiconductor; PackageTopMarking: ZXTT*AU1A; PowerWise: Y; CompType: Amplifiers; DatasheetVersion: Feb-2005; PackageVersion: revF, Apr-2008; PackageReference: MUA08A; PackageDescription: MINI SOIC, .118 x .118 x .034in, 8 Lead, .0256in Pitch; RoHS: N; PinCount: 8; High-Reliability: Y; Code_JEDEC: MO-187-AA; ComponentLink1Description: Manufacturer URL; ComponentLink1URL: http://www.national.com/; ComponentLink2Description: LMH6551 Datasheet; ComponentLink2URL: http://www.national.com/ds/LM/LMH6551.pdf; ComponentLink3Description: LMH6551 Web Page; ComponentLink3URL: http://www.national.com/pf/LM/LMH6551.html; ComponentLink4Description: MUA08A Package Page; ComponentLink4URL: http://www.national.com/packaging/folders/mua08a.html
footprint MUA08A_N (TSOP, 8-Leads, Body 3x3mm, Pitch 0.65mm, IPC Medium Density)
footprint MUA08A_L (TSOP, 8-Leads, Body 3x3mm, Pitch 0.65mm, IPC High Density)
footprint MUA08A_M (TSOP, 8-Leads, Body 3x3mm, Pitch 0.65mm, IPC Low Density)
pins: 1 IN- (in), 2 VCM, 3 V+ (power), 4 OUT+ (out), 5 OUT- (out), 6 V- (power), 7 NC, 8 IN+ (in)

## LMH6551MMX
designator U?
Differential, High Speed Op Amp, 8-pin Mini SOIC, 3500 Reel; PartNumber: LMH6551MMX; Manufacturer: National Semiconductor; PackageTopMarking: ZXTT*AU1A; PowerWise: Y; CompType: Amplifiers; DatasheetVersion: Feb-2005; PackageVersion: revF, Apr-2008; PackageReference: MUA08A; PackageDescription: MINI SOIC, .118 x .118 x .034in, 8 Lead, .0256in Pitch; RoHS: N; PinCount: 8; High-Reliability: Y; Code_JEDEC: MO-187-AA; ComponentLink1Description: Manufacturer URL; ComponentLink1URL: http://www.national.com/; ComponentLink2Description: LMH6551 Datasheet; ComponentLink2URL: http://www.national.com/ds/LM/LMH6551.pdf; ComponentLink3Description: LMH6551 Web Page; ComponentLink3URL: http://www.national.com/pf/LM/LMH6551.html; ComponentLink4Description: MUA08A Package Page; ComponentLink4URL: http://www.national.com/packaging/folders/mua08a.html
footprint MUA08A_N (TSOP, 8-Leads, Body 3x3mm, Pitch 0.65mm, IPC Medium Density)
footprint MUA08A_L (TSOP, 8-Leads, Body 3x3mm, Pitch 0.65mm, IPC High Density)
footprint MUA08A_M (TSOP, 8-Leads, Body 3x3mm, Pitch 0.65mm, IPC Low Density)
pins: 1 IN- (in), 2 VCM, 3 V+ (power), 4 OUT+ (out), 5 OUT- (out), 6 V- (power), 7 NC, 8 IN+ (in)

## LMH6551QMM/NOPB
designator U?
Differential, High Speed Op Amp, 8-pin Mini SOIC, Pb-Free, 1000 Reel; PartNumber: LMH6551QMM/NOPB; Manufacturer: National Semiconductor; PackageTopMarking: ZXTT*AU1Q; PowerWise: N; CompType: Amplifiers; High-Reliability: Y; DatasheetVersion: May-2011; PackageVersion: revF, Apr-2008; PackageReference: MUA08A; PackageDescription: MINI SOIC, .118 x .118 x .034in, 8 Lead, .0256in Pitch; RoHS: Y; PinCount: 8; Code_JEDEC: MO-187-AA; ComponentLink1Description: Manufacturer URL; ComponentLink1URL: http://www.national.com/; ComponentLink2Description: LMH6551 Datasheet; ComponentLink2URL: http://www.national.com/ds/LM/LMH6551.pdf; ComponentLink3Description: LMH6551 Web Page; ComponentLink3URL: http://www.national.com/pf/LM/LMH6551.html; ComponentLink4Description: MUA08A Package Page; ComponentLink4URL: http://www.national.com/packaging/folders/mua08a.html
footprint MUA08A_N (TSOP, 8-Leads, Body 3x3mm, Pitch 0.65mm, IPC Medium Density)
footprint MUA08A_L (TSOP, 8-Leads, Body 3x3mm, Pitch 0.65mm, IPC High Density)
footprint MUA08A_M (TSOP, 8-Leads, Body 3x3mm, Pitch 0.65mm, IPC Low Density)
pins: 1 IN- (in), 2 VCM, 3 V+ (power), 4 OUT+ (out), 5 OUT- (out), 6 V- (power), 7 NC, 8 IN+ (in)

## LMH6551QMME/NOPB
designator U?
Differential, High Speed Op Amp, 8-pin Mini SOIC, Pb-Free, 250 Reel; PartNumber: LMH6551QMME/NOPB; Manufacturer: National Semiconductor; PackageTopMarking: ZXTT*AU1Q; PowerWise: N; CompType: Amplifiers; High-Reliability: Y; DatasheetVersion: May-2011; PackageVersion: revF, Apr-2008; PackageReference: MUA08A; PackageDescription: MINI SOIC, .118 x .118 x .034in, 8 Lead, .0256in Pitch; RoHS: Y; PinCount: 8; Code_JEDEC: MO-187-AA; ComponentLink1Description: Manufacturer URL; ComponentLink1URL: http://www.national.com/; ComponentLink2Description: LMH6551 Datasheet; ComponentLink2URL: http://www.national.com/ds/LM/LMH6551.pdf; ComponentLink3Description: LMH6551 Web Page; ComponentLink3URL: http://www.national.com/pf/LM/LMH6551.html; ComponentLink4Description: MUA08A Package Page; ComponentLink4URL: http://www.national.com/packaging/folders/mua08a.html
footprint MUA08A_N (TSOP, 8-Leads, Body 3x3mm, Pitch 0.65mm, IPC Medium Density)
footprint MUA08A_L (TSOP, 8-Leads, Body 3x3mm, Pitch 0.65mm, IPC High Density)
footprint MUA08A_M (TSOP, 8-Leads, Body 3x3mm, Pitch 0.65mm, IPC Low Density)
pins: 1 IN- (in), 2 VCM, 3 V+ (power), 4 OUT+ (out), 5 OUT- (out), 6 V- (power), 7 NC, 8 IN+ (in)

## LMH6551QMMX/NOPB
designator U?
Differential, High Speed Op Amp, 8-pin Mini SOIC, Pb-Free, 3500 Reel; PartNumber: LMH6551QMMX/NOPB; Manufacturer: National Semiconductor; PackageTopMarking: ZXTT*AU1Q; PowerWise: N; CompType: Amplifiers; High-Reliability: Y; DatasheetVersion: May-2011; PackageVersion: revF, Apr-2008; PackageReference: MUA08A; PackageDescription: MINI SOIC, .118 x .118 x .034in, 8 Lead, .0256in Pitch; RoHS: Y; PinCount: 8; Code_JEDEC: MO-187-AA; ComponentLink1Description: Manufacturer URL; ComponentLink1URL: http://www.national.com/; ComponentLink2Description: LMH6551 Datasheet; ComponentLink2URL: http://www.national.com/ds/LM/LMH6551.pdf; ComponentLink3Description: LMH6551 Web Page; ComponentLink3URL: http://www.national.com/pf/LM/LMH6551.html; ComponentLink4Description: MUA08A Package Page; ComponentLink4URL: http://www.national.com/packaging/folders/mua08a.html
footprint MUA08A_N (TSOP, 8-Leads, Body 3x3mm, Pitch 0.65mm, IPC Medium Density)
footprint MUA08A_L (TSOP, 8-Leads, Body 3x3mm, Pitch 0.65mm, IPC High Density)
footprint MUA08A_M (TSOP, 8-Leads, Body 3x3mm, Pitch 0.65mm, IPC Low Density)
pins: 1 IN- (in), 2 VCM, 3 V+ (power), 4 OUT+ (out), 5 OUT- (out), 6 V- (power), 7 NC, 8 IN+ (in)

## LMH6552MA
designator U?
1.5 GHz Fully Differential Amplifier, 8-pin Narrow SOIC; PartNumber: LMH6552MA; Manufacturer: National Semiconductor; PackageTopMarking: NSZXTT*LMH65*52MA; PowerWise: Y; CompType: Amplifiers; DatasheetVersion: Sep-2007; PackageVersion: revM, May-2009; PackageReference: M08A; PackageDescription: SOIC Narrow, 4.9 x 3.9 x 1.45mm, 8 Lead, 1.27mm Pitch; RoHS: Y; PinCount: 8; High-Reliability: Y; Code_JEDEC: MS-012-AA; Code_IPC: SOIC127P600-8; ComponentLink1Description: Manufacturer URL; ComponentLink1URL: http://www.national.com/; ComponentLink2Description: LMH6552 Datasheet; ComponentLink2URL: http://www.national.com/ds/LM/LMH6552.pdf; ComponentLink3Description: LMH6552 Web Page; ComponentLink3URL: http://www.national.com/pf/LM/LMH6552.html; ComponentLink4Description: M08A Package Page; ComponentLink4URL: http://www.national.com/packaging/folders/m08a.html
footprint M08A_N (SOIC, 8-Leads, Body 4.9x3.9mm, Pitch 1.27mm, IPC Medium Density)
footprint M08A_L (SOIC, 8-Leads, Body 4.9x3.9mm, Pitch 1.27mm, IPC High Density)
footprint M08A_M (SOIC, 8-Leads, Body 4.9x3.9mm, Pitch 1.27mm, IPC Low Density)
pins: 1 IN- (in), 2 VCM, 3 V+ (power), 4 OUT+ (out), 5 OUT- (out), 6 V- (power), 7 EN, 8 IN+ (in)

## LMH6552MA/NOPB
designator U?
1.5 GHz Fully Differential Amplifier, 8-pin Narrow SOIC, Pb-Free; PartNumber: LMH6552MA/NOPB; Manufacturer: National Semiconductor; PackageTopMarking: NSZXTT*LMH65*52MA; PowerWise: Y; CompType: Amplifiers; DatasheetVersion: Sep-2007; PackageVersion: revM, May-2009; PackageReference: M08A; PackageDescription: SOIC Narrow, 4.9 x 3.9 x 1.45mm, 8 Lead, 1.27mm Pitch; RoHS: Y; PinCount: 8; High-Reliability: Y; Code_JEDEC: MS-012-AA; Code_IPC: SOIC127P600-8; ComponentLink1Description: Manufacturer URL; ComponentLink1URL: http://www.national.com/; ComponentLink2Description: LMH6552 Datasheet; ComponentLink2URL: http://www.national.com/ds/LM/LMH6552.pdf; ComponentLink3Description: LMH6552 Web Page; ComponentLink3URL: http://www.national.com/pf/LM/LMH6552.html; ComponentLink4Description: M08A Package Page; ComponentLink4URL: http://www.national.com/packaging/folders/m08a.html
footprint M08A_N (SOIC, 8-Leads, Body 4.9x3.9mm, Pitch 1.27mm, IPC Medium Density)
footprint M08A_L (SOIC, 8-Leads, Body 4.9x3.9mm, Pitch 1.27mm, IPC High Density)
footprint M08A_M (SOIC, 8-Leads, Body 4.9x3.9mm, Pitch 1.27mm, IPC Low Density)
pins: 1 IN- (in), 2 VCM, 3 V+ (power), 4 OUT+ (out), 5 OUT- (out), 6 V- (power), 7 EN, 8 IN+ (in)

## LMH6552MAX/NOPB
designator U?
1.5 GHz Fully Differential Amplifier, 8-pin Narrow SOIC, Pb-Free; PartNumber: LMH6552MAX/NOPB; Manufacturer: National Semiconductor; PackageTopMarking: NSZXTT*LMH65*52MA; PowerWise: Y; CompType: Amplifiers; DatasheetVersion: Sep-2007; PackageVersion: revM, May-2009; PackageReference: M08A; PackageDescription: SOIC Narrow, 4.9 x 3.9 x 1.45mm, 8 Lead, 1.27mm Pitch; RoHS: Y; PinCount: 8; High-Reliability: Y; Code_JEDEC: MS-012-AA; Code_IPC: SOIC127P600-8; ComponentLink1Description: Manufacturer URL; ComponentLink1URL: http://www.national.com/; ComponentLink2Description: LMH6552 Datasheet; ComponentLink2URL: http://www.national.com/ds/LM/LMH6552.pdf; ComponentLink3Description: LMH6552 Web Page; ComponentLink3URL: http://www.national.com/pf/LM/LMH6552.html; ComponentLink4Description: M08A Package Page; ComponentLink4URL: http://www.national.com/packaging/folders/m08a.html
footprint M08A_N (SOIC, 8-Leads, Body 4.9x3.9mm, Pitch 1.27mm, IPC Medium Density)
footprint M08A_L (SOIC, 8-Leads, Body 4.9x3.9mm, Pitch 1.27mm, IPC High Density)
footprint M08A_M (SOIC, 8-Leads, Body 4.9x3.9mm, Pitch 1.27mm, IPC Low Density)
pins: 1 IN- (in), 2 VCM, 3 V+ (power), 4 OUT+ (out), 5 OUT- (out), 6 V- (power), 7 EN, 8 IN+ (in)

## LMH6552SD
designator U?
1.5 GHz Fully Differential Amplifier, 8-pin LLP; PartNumber: LMH6552SD; Manufacturer: National Semiconductor; PackageTopMarking: XYTT*6552; PowerWise: Y; CompType: Amplifiers; DatasheetVersion: Sep-2007; PackageVersion: revA, Jan-2004; PackageReference: SDA08C; PackageDescription: LLP, Plastic, Dual, 2.5 x 3.0 x 0.8mm Body, 8 Lead, 0.5mm Pitch, No Pullback; RoHS: Y; PinCount: 8; High-Reliability: Y; ComponentLink1Description: Manufacturer URL; ComponentLink1URL: http://www.national.com/; ComponentLink2Description: LMH6552 Datasheet; ComponentLink2URL: http://www.national.com/ds/LM/LMH6552.pdf; ComponentLink3Description: LMH6552 Web Page; ComponentLink3URL: http://www.national.com/pf/LM/LMH6552.html; ComponentLink4Description: SDA08C Package Page; ComponentLink4URL: http://www.national.com/packaging/folders/sda08c.html
footprint SDA08C (SON, 8-Leads, Body 2.5x3mm, Pitch 0.5mm, NSC Recommended)
part A pins: 1 IN- (in), 2 VCM, 3 V+ (power), 4 OUT+ (out), 5 OUT- (out), 6 V- (power), 7 EN, 8 IN+ (in)
part B pins: 9 DAP